# Altium integrated library passive-ind-th.IntLib: 6 symbols
Pins are listed as number, name and electrical type; pins without a type are passive.

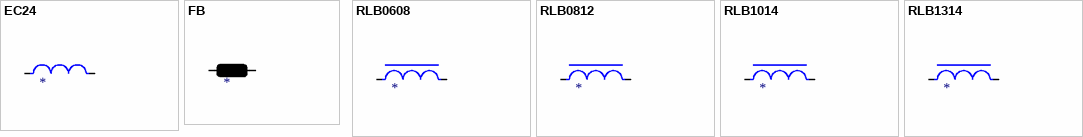
[diagram p0: symbols EC24 to RLB1314]

## EC24
designator FB?
Inductor EC24; Name: *; Resistance: *; RevisionDate: 11-01-2018; Value: *
footprint IND-EC24 (QFN, 4-Leads, Body 7,50x5,00mm, Pitch 6,00mm/2,54mm, IPC Medium Density)
pins: 1, 2

## FB
designator FB?
Ferrite bead axial; Name: *; Resistance: *; RevisionDate: 11-01-2018; Value: *
footprint RES-KNP-0.125W (QFN, 4-Leads, Body 7,50x5,00mm, Pitch 6,00mm/2,54mm, IPC Medium Density)
pins: 1, 2

## RLB0608
designator L?
Inductor 0608; Name: *; Resistance: *; RevisionDate: 11-01-2018; Value: *
footprint IND-RLB-0608
pins: 1, 2

## RLB0812
designator L?
Inductor 0812; Name: *; Resistance: *; RevisionDate: 11-01-2018; Value: *
footprint IND-RLB-0812
pins: 1, 2

## RLB1014
designator L?
Inductor 1014; Name: *; Resistance: *; RevisionDate: 11-01-2018; Value: *
footprint IND-RLB-1014
pins: 1, 2

## RLB1314
designator L?
Inductor 1314; Name: *; Resistance: *; RevisionDate: 11-01-2018; Value: *
footprint IND-RLB-1314
pins: 1, 2